# EAGLE library part 54548-2272 (library 54548-2272)
FFC & FPC Connectors 0.5mmP Easy-On FFC/FPC Conn 1.20mm Hght RA SMT 22Ckt Gold Source: Datasheet <https://www.molex.com/pdm_docs/sd/545482272_sd.pdf>
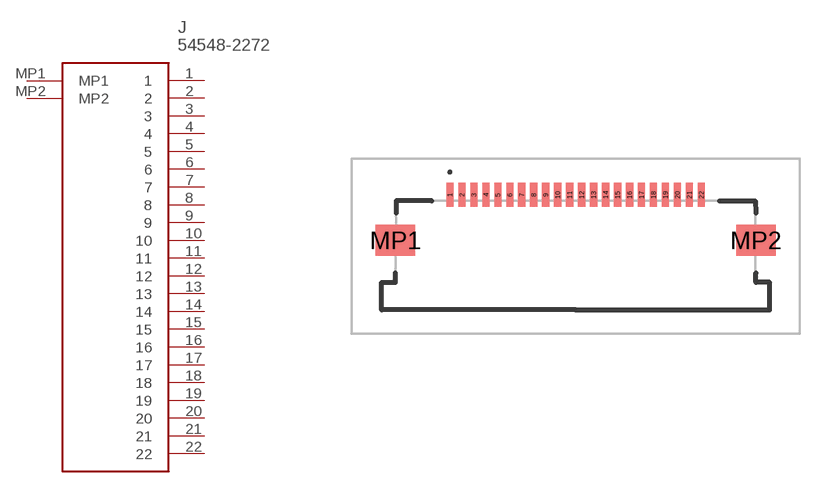
[diagram p0: symbol with the pads of 545482272; footprint 545482272]

Designator prefix J

## 54548-2272 (Description: FFC & FPC Connectors 0.5mmP Easy-On FFC/FPC Conn 1.20mm Hght RA SMT 22Ckt Gold; Height: 1.3mm; Manufacturer_Name: Molex; Manufacturer_Part_Number: 54548-2272; Mouser_Part_Number: 538-54548-2272; Mouser_Price-Stock: https://www.mouser.co.uk/ProductDetail/Molex/54548-2272?qs=vvQtp7zwQdMMCb6G6RF0NQ%3D%3D)  [545482272]
1  1
2  2
3  3
4  4
5  5
6  6
7  7
8  8
9  9
10  10
11  11
12  12
13  13
14  14
15  15
16  16
17  17
18  18
19  19
20  20
21  21
22  22
MP1  MP1
MP2  MP2

## Footprint 545482272 (pad centres in mm)
54548-2272-2
smd 0.3 x 1: 1 -5.25,2.4; 2 -4.75,2.4; 3 -4.25,2.4; 4 -3.75,2.4; 5 -3.25,2.4; 6 -2.75,2.4; 7 -2.25,2.4; 8 -1.75,2.4; 9 -1.25,2.4; 10 -0.75,2.4; 11 -0.25,2.4; 12 0.25,2.4; 13 0.75,2.4; 14 1.25,2.4; 15 1.75,2.4; 16 2.25,2.4; 17 2.75,2.4; 18 3.25,2.4; 19 3.75,2.4; 20 4.25,2.4; 21 4.75,2.4; 22 5.25,2.4
smd 1.65 x 1.3: MP1 -7.525,0.5; MP2 7.525,0.5